# Altium schematic symbol library LS0504EDD12.SchLib: 1 symbol
Pins are listed as number, name and electrical type; pins without a type are passive.

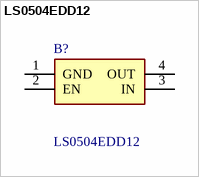
[diagram p0: symbol LS0504EDD12]

## LS0504EDD12
designator B?
5.5V 4A Low-Ron Power Distribution Load Switch; Manufacturer_Name: LITTELFUSE; Geometry.Height: 0.6mm; Mouser Part Number: 576-LS0504EDD12; Mouser Price/Stock: https://www.mouser.co.uk/ProductDetail/Littelfuse/LS0504EDD12?qs=Y0Uzf4wQF3k6zICD8%2FzPxw%3D%3D; Manufacturer_Part_Number: LS0504EDD12; Datasheet Link: https://www.littelfuse.com/media?resourcetype=datasheets&itemid=95b47243-e071-4a2a-9264-64dbef6c0a3f&filename=littelfuse-protection-ic-ls0504edd12-datasheet
footprint SON50P160X120X60-4N
pins: 1 GND, 2 EN, 3 IN, 4 OUT